# EAGLE library part ESP32-WROOM-32D (library mylibrary)
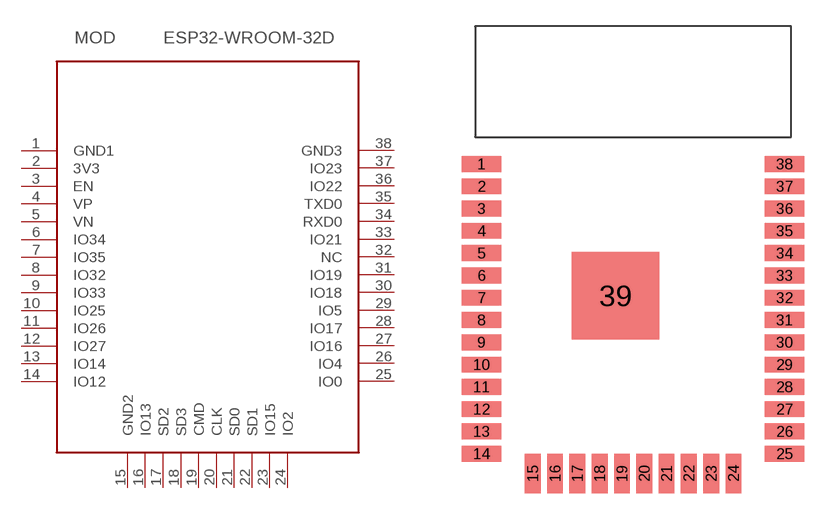
[diagram p0: symbol with the pads of ESP32-WROOM-32D; footprint ESP32-WROOM-32D]

Designator prefix MOD

## ESP32-WROOM-32D  [ESP32-WROOM-32D]
1  GND1
2  3V3
3  EN
4  VP
5  VN
6  IO34
7  IO35
8  IO32
9  IO33
10  IO25
11  IO26
12  IO27
13  IO14
14  IO12
15  GND2
16  IO13
17  SD2
18  SD3
19  CMD
20  CLK
21  SD0
22  SD1
23  IO15
24  IO2
25  IO0
26  IO4
27  IO16
28  IO17
29  IO5
30  IO18
31  IO19
32  NC
33  IO21
34  RXD0
35  TXD0
36  IO22
37  IO23
38  GND3

## Footprint ESP32-WROOM-32D (pad centres in mm)
smd 2.25 x 0.9: 1 -8.625,8.255; 2 -8.625,6.985; 3 -8.625,5.715; 4 -8.625,4.445; 5 -8.625,3.175; 6 -8.625,1.905; 7 -8.625,0.635; 8 -8.625,-0.635; 9 -8.625,-1.905; 10 -8.625,-3.175; 11 -8.625,-4.445; 12 -8.625,-5.715; 13 -8.625,-6.985; 14 -8.625,-8.255; 25 8.625,-8.255; 26 8.625,-6.985; 27 8.625,-5.715; 28 8.625,-4.445; 29 8.625,-3.175; 30 8.625,-1.905; 31 8.625,-0.635; 32 8.625,0.635; 33 8.625,1.905; 34 8.625,3.175; 35 8.625,4.445; 36 8.625,5.715; 37 8.625,6.985; 38 8.625,8.255
smd 0.9 x 2.25: 15 -5.715,-9.38; 16 -4.445,-9.38; 17 -3.175,-9.38; 18 -1.905,-9.38; 19 -0.635,-9.38; 20 0.635,-9.38; 21 1.905,-9.38; 22 3.175,-9.38; 23 4.445,-9.38; 24 5.715,-9.38
smd 5 x 5: 39 -1,0.75